# Altium schematic symbol library 61301011121.SCHLIB: 1 symbol
Pins are listed as number, name and electrical type; pins without a type are passive.

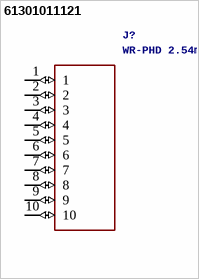
[diagram p0: symbol 61301011121]

## 61301011121
designator J?, comment WR-PHD 2.54mm Pin Header 10pin Wurth Elektronik 613 Series, 2.54mm Pitch 10 Way 1 Row Straight PCB Header, Solder Pin Termination, 3A   Source:  Datasheet
GateName_1: G$1; SymbolName_1: 61301011121; LibraryName: 61301011121; DeviceSetName: 61301011121; Mouser_Part_Number: 710-61301011121; Mouser_Price-Stock: https://www.mouser.co.uk/ProductDetail/Wurth-Elektronik/61301011121?qs=ZtY9WdtwX548wETl0P4xpA%3D%3D; Manufacturer_Name: Wurth Elektronik; Manufacturer_Part_Number: 61301011121; Description: WR-PHD 2.54mm Pin Header 10pin Wurth Elektronik 613 Series, 2.54mm Pitch 10 Way 1 Row Straight PCB Header, Solder Pin Termination, 3A; Height: 8.54mm
footprint HDRV10W64P0X254_1X10_2540X254X
pins: 1 (io), 2 (io), 3 (io), 4 (io), 5 (io), 6 (io), 7 (io), 8 (io), 9 (io), 10 (io)